# Altium schematic symbol library TMCS1127.Schlib: 1 symbol
Pins are listed as number, name and electrical type; pins without a type are passive.

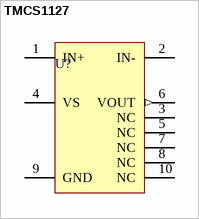
[diagram p0: symbol TMCS1127]

## TMCS1127
designator U?
250kHz Hall-Effect Current Sensor
pins: 1 IN+, 2 IN-, 3 NC, 4 VS (power), 5 NC, 6 VOUT (out), 7 NC, 8 NC, 9 GND (power), 10 NC